# Altium schematic symbol library MLPF-WB55-01E3.SchLib: 1 symbol
Pins are listed as number, name and electrical type; pins without a type are passive.

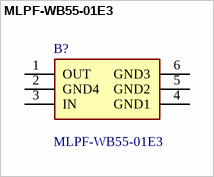
[diagram p0: symbol MLPF-WB55-01E3]

## MLPF-WB55-01E3
designator B?
RF Wireless Misc 2.4 GHz Low Pass Filter matched to STM32WB55; Manufacturer_Name: STMicroelectronics; Geometry.Height: 0.7mm; Mouser Part Number: 511-MLPF-WB55-01E3; Mouser Price/Stock: https://www.mouser.co.uk/ProductDetail/STMicroelectronics/MLPF-WB55-01E3?qs=vLWxofP3U2xV%2FkxL9PmCDA%3D%3D; Manufacturer_Part_Number: MLPF-WB55-01E3; Datasheet Link: https://www.st.com/resource/en/datasheet/mlpf-wb55-01e3.pdf
footprint MLPFWB5501E3
pins: 1 OUT, 2 GND4, 3 IN, 4 GND1, 5 GND2, 6 GND3